# EAGLE library part DRV8320H (library IC, Motor Driver - DRV8320HRTVT)
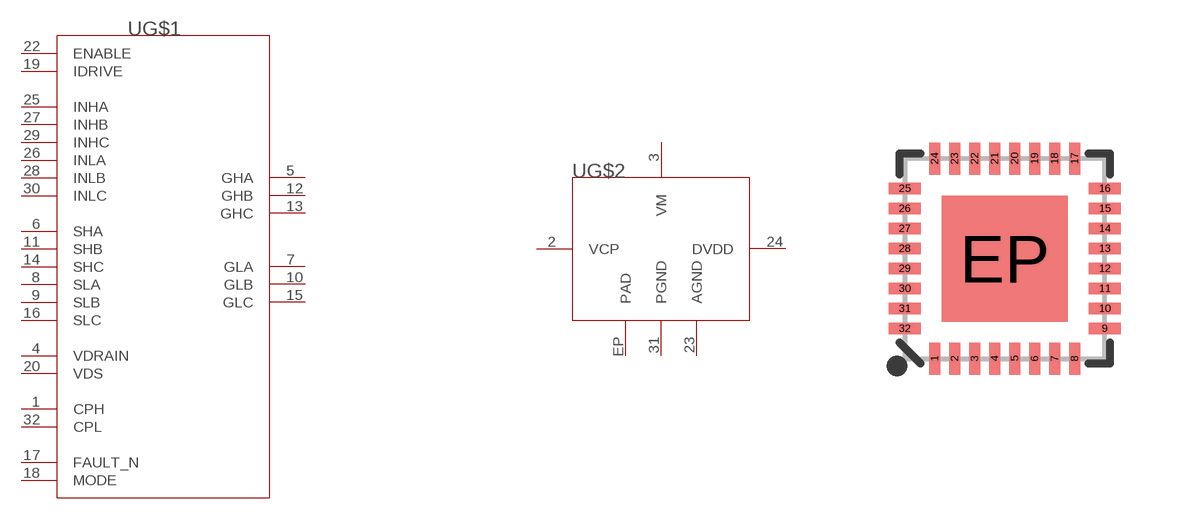
[diagram p0: symbol with the pads of QFN-32-5X5MM; footprint QFN-32-5X5MM]

Designator prefix -; gates G$1=DRV8320HRTVT G$2=DRV8320HRTVT_A

## DRV8320H  [QFN-32-5X5MM]
1  G$1:CPH  pas
2  G$2:VCP  pas
3  G$2:VM  pas
4  G$1:VDRAIN  pas
5  G$1:GHA  pas
6  G$1:SHA  pas
7  G$1:GLA  pas
8  G$1:SLA  pas
9  G$1:SLB  pas
10  G$1:GLB  pas
11  G$1:SHB  pas
12  G$1:GHB  pas
13  G$1:GHC  pas
14  G$1:SHC  pas
15  G$1:GLC  pas
16  G$1:SLC  pas
17  G$1:FAULT_N  pas
18  G$1:MODE  pas
19  G$1:IDRIVE  pas
20  G$1:VDS  pas
22  G$1:ENABLE  pas
23  G$2:AGND  pas
24  G$2:DVDD  pas
25  G$1:INHA  pas
26  G$1:INLA  pas
27  G$1:INHB  pas
28  G$1:INLB  pas
29  G$1:INHC  pas
30  G$1:INLC  pas
31  G$2:PGND  pas
32  G$1:CPL  pas
EP  G$2:PAD  pas

## Footprint QFN-32-5X5MM (pad centres in mm)
QFN 32-Pin w/ Thermal Pad - 5.0 x 5.0 mm Used by nRF24LU1 and nRF24LE1 Datasheet Example <https://www.sparkfun.com/datasheets/Wireless/Nordic/nRF24LU1P_1_0.pdf>
smd 0.285 x 0.8: 1 -1.75,-2.5; 2 -1.25,-2.5; 3 -0.75,-2.5; 4 -0.25,-2.5; 5 0.25,-2.5; 6 0.75,-2.5; 7 1.25,-2.5; 8 1.75,-2.5; 17 1.75,2.5; 18 1.25,2.5; 19 0.75,2.5; 20 0.25,2.5; 21 -0.25,2.5; 22 -0.75,2.5; 23 -1.25,2.5; 24 -1.75,2.5
smd 0.8 x 0.285: 9 2.5,-1.75; 10 2.5,-1.25; 11 2.5,-0.75; 12 2.5,-0.25; 13 2.5,0.25; 14 2.5,0.75; 15 2.5,1.25; 16 2.5,1.75; 25 -2.5,1.75; 26 -2.5,1.25; 27 -2.5,0.75; 28 -2.5,0.25; 29 -2.5,-0.25; 30 -2.5,-0.75; 31 -2.5,-1.25; 32 -2.5,-1.75
smd 3.15 x 3.15: EP 0,0